# Altium footprint library LED0603.PcbLib: 1 footprints
Each footprint in its own frame and in the unit in brackets; x right, y up, seen from the top. Pads: shape width x height; smd on the part's side, far side on the other; paste and mask are expansions set on the pad; w line width, h text height; cw(c..) or ccw(c..) is an arc to the next point about the centre after c.
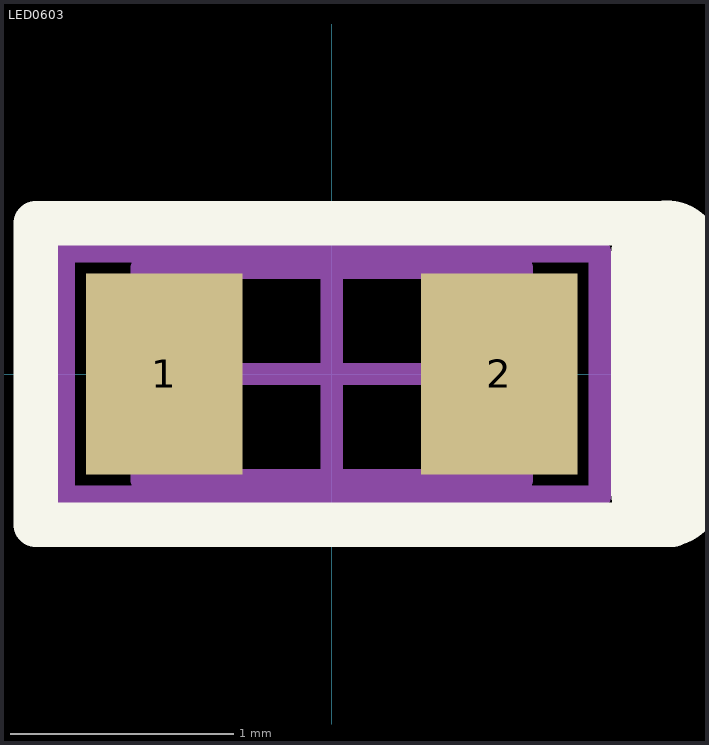
[diagram p0: the footprint, top view; thin cyan lines are the x and y axes]

## LED0603 [mm] "0603 LED footprint, thick line on the cathode"
height 0.9
pads (2):
  rect 0.7x0.9 smd: 1(-0.75,0) 2(0.75,0)
Top Overlay:
  lines w0.2: 1.524,-0.675 -1.325,-0.675 -1.325,0.675 1.524,0.675
  lines w0.5: 1.499,-0.523 1.499,0.527
Mechanical 13:
  lines w0.1: -0.85,-0.475 -0.85,0.475 0.85,0.475 0.85,-0.475 -0.85,-0.475
Mechanical 15:
  lines w0.1: -0.475,0 0.475,0 ; 0,-0.475 0,0.475 ; -1.2,-0.55 -1.2,0.55 1.2,0.55 1.2,-0.55 -1.2,-0.55
3D body "(0603) LED_DIALIGHT_598.stp": height 0.71, standoff 0, extent -0.8,-0.396 0.8,0.396